# Altium schematic symbol library Schlib.SchLib: 32 symbols
Pins are listed as number, name and electrical type; pins without a type are passive.

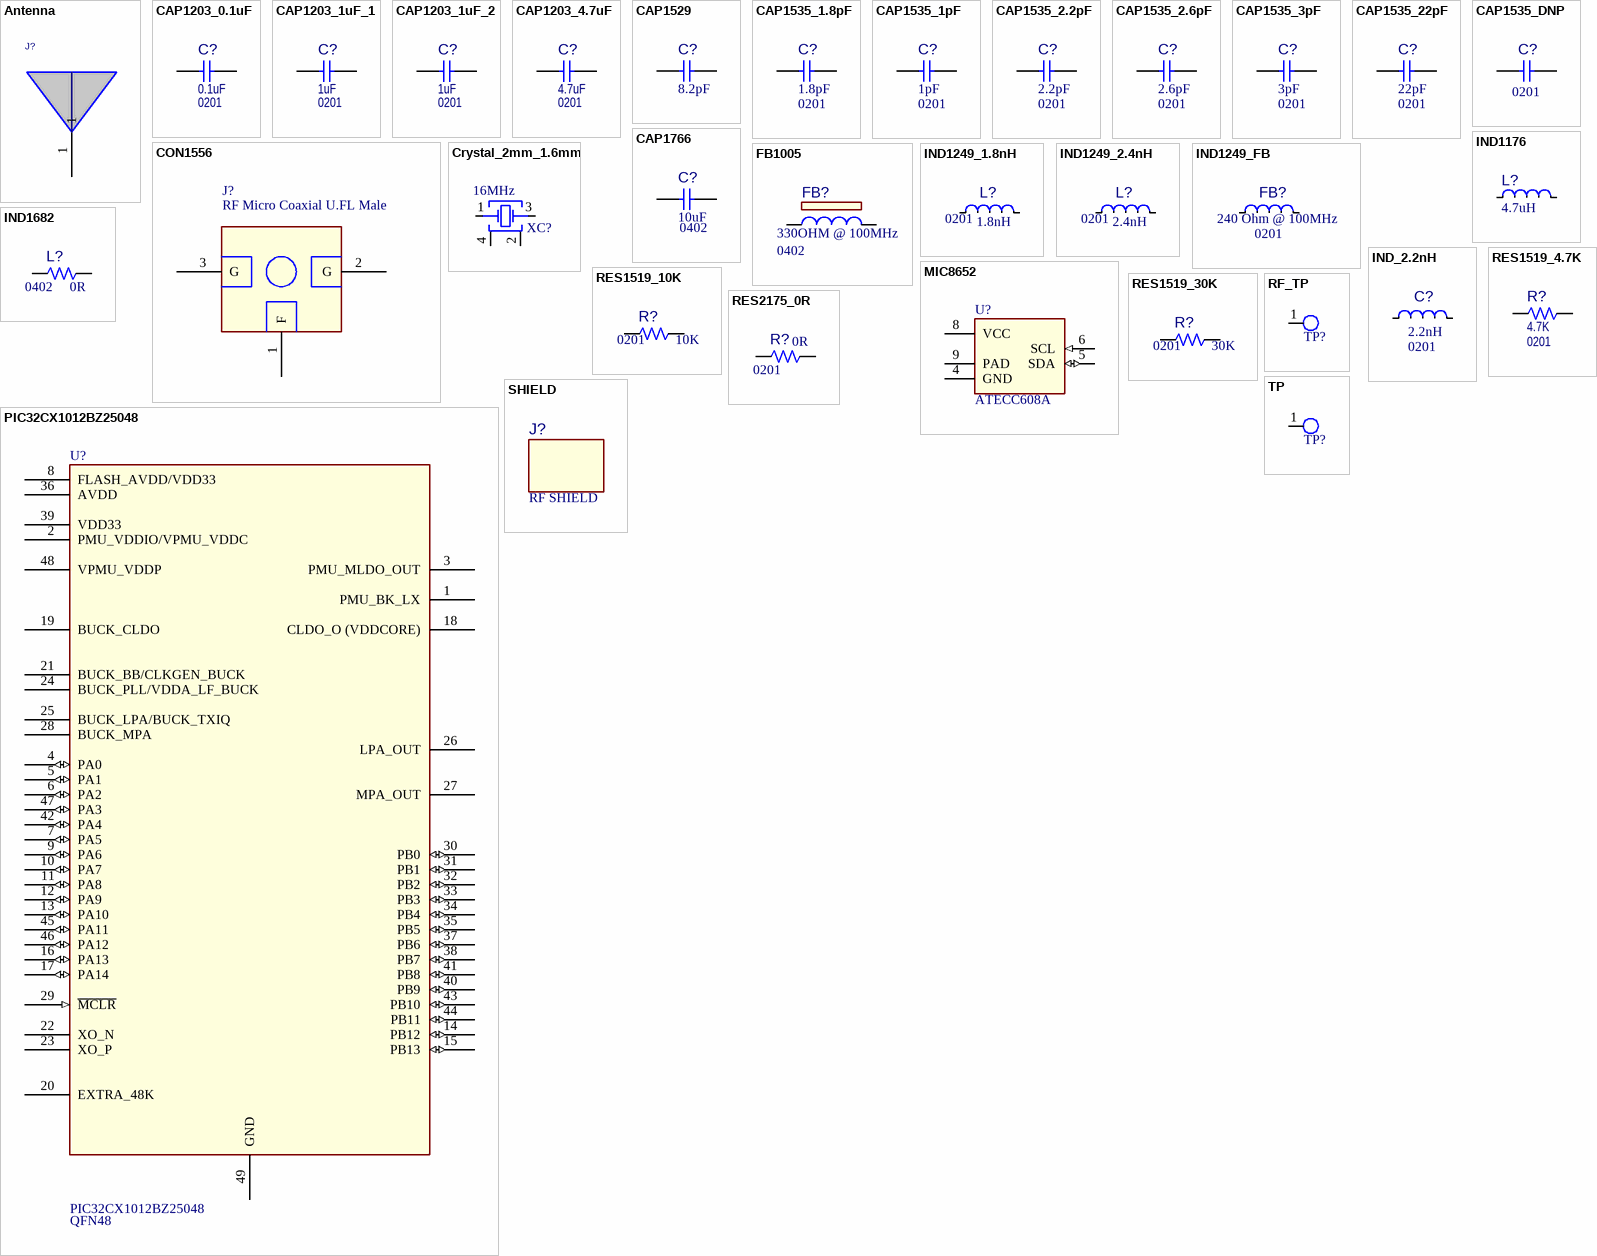
[diagram p0: symbols Antenna to TP]

## Antenna
designator J?  (no BOM)
PCB Antenna; HEIGHT: 0MM; Category: Connector; ROHS: YES
footprint MONOPOLE_2LAYERS - duplicate
pins: 1

## CAP1203_0.1uF
designator C?  value 0.1uF  Package: 0201
CAP CER 0.1UF 16V X5R 0201; Manufacturer: Murata; Alternate Part Number: GRM033R61A104ME15D; Manufacturer Part Number: GRM033R61C104KE84D; Alternate Part Description: CAP CER 0.1UF 10V X5R 0201; Note: *; ComponentLink5Description: Open Footprint 2; ComponentLink6Description: Open Footprint 3; ComponentLink7Description: Open Footprint 4; Alternate Manufacturer: Murata
footprint CAP_C_0201
pins: 1, 2

## CAP1203_1uF_1
designator C?  value 1uF  Package: 0201
CAP CER 1UF 10V X5R 0201; Manufacturer: Murata; Alternate Part Number: GRM033R60J105MEA2D; Manufacturer Part Number: GRM033R61A105ME15; Alternate Part Description: CAP CER 1UF 6.3V X5R 0201; Note: *; ComponentLink5Description: Open Footprint 2; ComponentLink6Description: Open Footprint 3; ComponentLink7Description: Open Footprint 4; Alternate Manufacturer: Murata
footprint CAP_C_0201
pins: 1, 2

## CAP1203_1uF_2
designator C?  value 1uF  Package: 0201
CAP CER 1UF 10V X5R 0201; Manufacturer: Murata; Alternate Manufacturer: Samsung; Alternate Part Number: CL03A105MQ3CSNH; Manufacturer Part Number: GRM033R61A105ME15; Alternate Part Description: CAP CER 1UF 6.3V X5R 0201; Note: *; ComponentLink5Description: Open Footprint 2; ComponentLink6Description: Open Footprint 3; ComponentLink7Description: Open Footprint 4
footprint CAP_C_0201
pins: 1, 2

## CAP1203_4.7uF
designator C?  value 4.7uF  Package: 0201
CAP CER 4.7UF 6.3V X5R 0201; Manufacturer: Murata; Alternate Manufacturer: KYOCERA AVX; Alternate Part Number: CM03X5R475M06AH055; Manufacturer Part Number: GRM035R60J475ME15J; Note: *; ComponentLink5Description: Open Footprint 2; ComponentLink6Description: Open Footprint 3; ComponentLink7Description: Open Footprint 4; Alternate Part Description: CAP CER 4.7UF 6.3V X5R 0201
footprint CAP_C_0201
pins: 1, 2

## CAP1529
designator C?  value 8.2pF
CAP CER 8.2PF 25V C0G/NP0 0201; Manufacturer: Murata; Manufacturer Part Number: GRM0335C1E8R2BA01D; Alternate Manufacturer: Yageo; Alternate Part Number: CC0201DRNPO8BN8R2‎; Alternate Part Description: CAP CER 8.2PF 25V C0G/NPO 0201; Note: *; ComponentLink5Description: Open Footprint 2; ComponentLink6Description: Open Footprint 3; ComponentLink7Description: Open Footprint 4
footprint CAP_C_0201
pins: 1, 2

## CAP1535_1.8pF
designator C?  value 1.8pF  Package: 0201
CAP CER 1.8PF 50V C0G/NP0 0201; Manufacturer: Murata; Alternate Manufacturer: Johanson; Alternate Part Number: 250R05L1R8BV4T; Alternate Part Description: CAP CER 1.8PF 25V C0G/NP0 0201; Manufacturer Part Number: GJM0335C1H1R8BB01; Note: *; ComponentLink5Description: Open Footprint 2; ComponentLink6Description: Open Footprint 3; ComponentLink7Description: Open Footprint 4
footprint CAP_C_0201
pins: 1, 2

## CAP1535_1pF
designator C?  value 1pF  Package: 0201
CAP CER 1PF 25V C0G/NP0 0201; Manufacturer: Murata; Alternate Manufacturer: Johanson; Alternate Part Number: 250R05L1R0BV4T; Manufacturer Part Number: GJM0335C1E1R0BB01D; Note: *; ComponentLink5Description: Open Footprint 2; ComponentLink6Description: Open Footprint 3; ComponentLink7Description: Open Footprint 4; Alternate Part Description: CAP CER 1PF 25V C0G/NP0 0201
footprint CAP_C_0201
pins: 1, 2

## CAP1535_2.2pF
designator C?  value 2.2pF  Package: 0201
CAP CER 2.2PF 50V C0G/NP0 0201; Manufacturer: Murata; Alternate Manufacturer: Johanson; Alternate Part Number: 250R05L2R2BV4T; Alternate Part Description: CAP CER 2.2PF 25V C0G/NP0 0201; Manufacturer Part Number: GJM0335C1H2R2BB01; Note: *; ComponentLink5Description: Open Footprint 2; ComponentLink6Description: Open Footprint 3; ComponentLink7Description: Open Footprint 4
footprint CAP_C_0201
pins: 1, 2

## CAP1535_2.6pF
designator C?  value 2.6pF  Package: 0201
CAP CER 2.6PF 50V C0G/NP0 0201; Manufacturer: Murata; Alternate Manufacturer: Samsung; Alternate Part Number: CL03C2R6BA3GNNC; Alternate Part Description: CAP CER 2.6PF 25V C0G/NP0 0201; Manufacturer Part Number: GRM0335C1H2R6BA01D; Note: *; ComponentLink5Description: Open Footprint 2; ComponentLink6Description: Open Footprint 3; ComponentLink7Description: Open Footprint 4
footprint CAP_C_0201
pins: 1, 2

## CAP1535_3pF
designator C?  value 3pF  Package: 0201
CAP CER 3PF 25V C0G/NP0 0201; Manufacturer: Murata; Alternate Manufacturer: Johanson; Alternate Part Number: 250R05L3R0BV4T; Manufacturer Part Number: GJM0335C1E3R0BB01D; Note: *; ComponentLink5Description: Open Footprint 2; ComponentLink6Description: Open Footprint 3; ComponentLink7Description: Open Footprint 4; Alternate Part Description: CAP CER 3PF 25V C0G/NP0 0201
footprint CAP_C_0201
pins: 1, 2

## CAP1535_22pF
designator C?  value 22pF  Package: 0201
CAP CER 22PF 50V C0G/NP0 0201; Manufacturer: Murata; Alternate Manufacturer: Johanson; Alternate Part Number: 250R05L220JV4T; Alternate Part Description: CAP CER 22PF 25V C0G/NP0 0201; Manufacturer Part Number: GRM0335C1H220JA01D; ComponentLink5Description: Open Footprint 2; ComponentLink6Description: Open Footprint 3; ComponentLink7Description: Open Footprint 4
footprint CAP_C_0201
pins: 1, 2

## CAP1535_DNP
designator C?  Package: 0201
CAP CER 0201; Note: *; ComponentLink5Description: Open Footprint 2; ComponentLink6Description: Open Footprint 3; ComponentLink7Description: Open Footprint 4
footprint CAP_C_0201
pins: 1, 2

## CAP1766
designator C?  value 10uF  Package: 0402
CAP CER 10UF 6.3V X5R 0402; Manufacturer: Murata; Manufacturer Part Number: GRM155R61A106ME11#; Alternate Manufacturer: Yageo; Alternate Part Number: CC0402MRX5R6BB106; Alternate Part Description: CAP CER 10UF 10V X5R 0402; Note: *; ComponentLink5Description: Open Footprint 2; ComponentLink6Description: Open Footprint 3; ComponentLink7Description: Open Footprint 4
footprint CAP_C_0402 (Chip Capacitor, 2-Leads, Body 1.0x0.5mm, IPC High Density)
pins: 1, 2

## CON1556
designator J?  value RF Micro Coaxial U.FL Male
CONN U.FL RCPT STR 50 OHM SMD; Manufacturer: Hirose; Manufacturer Part Number: U.FL-R-SMT; Alternate Part: I-PEX; Alternate Part Number: 20279-001E-03; ComponentLink5Description: Open Footprint 2; ComponentLink6Description: Open Footprint 3; ComponentLink7Description: Open Footprint 4; Alternate part description: CONN U.FL RCPT STR 50 OHM SMD
footprint CONN_MICRO-COAXIAL RECEPTACLE V-SMD3-H1.25
pins: 1 F, 2 G, 3 G
1 alternate drawing of the same symbol

## Crystal_2mm_1.6mm
designator XC?  value 16MHz
CRYSTAL 16.0000MHZ 8PF SMD; Manufacturer: Tai-Saw Technology Co., LTD; Alternate Manufacturer: Jauch Quartz; Alternate Part Number: Q 16,0-JXS21-8-10/15-T1-WA-LF; Manufacturer Part Number: TZ2761D; Alternate Part Description: CRYSTAL 16.0000MHZ 8PF SMD
footprint AP7-00104 (CRYSTAL 32MHz 10pF SMD L2.0W1.6H0.5)
pins: 1, 2, 3, 4

## FB1005
designator FB?  value 330OHM @ 100MHz  Package: 0402
FERRITE BEAD 330 OHM 1.2A 0402 1LN; Manufacturer: Murata; Manufacturer Part Number: BLM15PX331SN1D; Alternate Manufacturer: TDK; Alternate Part Number: MPZ1005S331ET000; Alternate Part Description: FERRITE BEAD 330 OHM 0402 1LN; Note: *; ComponentLink5Description: Open Footprint 2; ComponentLink6Description: Open Footprint 3; ComponentLink7Description: Open Footprint 4
footprint IND_C_0402
pins: 1, 2
2 alternate drawings of the same symbol

## IND1176
designator L?  value 4.7uH
FIXED IND 4.7UH 1.2A 275MOHM SMD 0805; Manufacturer: Murata; Manufacturer Part Number: LQM21PN4R7MGH; Alternate Manufacturer: Taiyo Yuden; Alternate Part Number: CB2012T4R7M; Alternate Part Description: FIXED IND 4.7UH 580MA 520MOHM SM; Note: *; ComponentLink5Description: Open Footprint 2; ComponentLink6Description: Open Footprint 3; ComponentLink7Description: Open Footprint 4; Package: 0805
footprint IND_C_0805
pins: 1 S, 2 F
2 alternate drawings of the same symbol

## IND1249_1.8nH
designator L?  value 1.8nH  Package: 0201
FIXED IND 1.8NH 800MA 80MOHM SMD; Manufacturer: Murata; Alternate Manufacturer: TDK; Alternate Part Number: MHQ0603P1N8BT000; Alternate Part Description: FIXED IND 1.8NH 700MA 120MOHM SM; Manufacturer Part Number: LQP03HQ1N8B02#; DCR: 0.12R; ComponentLink5Description: Open Footprint 2; ComponentLink6Description: Open Footprint 3; ComponentLink7Description: Open Footprint 4
footprint IND_C_0201
pins: 1 S, 2 F
2 alternate drawings of the same symbol

## IND1249_2.4nH
designator L?  value 2.4nH  Package: 0201
FIXED IND 2.4NH 600MA 120MOHM SM; Manufacturer: Murata; Alternate Manufacturer: TDK; Alternate Part Number: MHQ0603P2N4BT000; Alternate Part Description: FIXED IND 2.4NH 700MA 150MOHM SM 0201; Manufacturer Part Number: LQP03HQ2N4B02#; ComponentLink5Description: Open Footprint 2; ComponentLink6Description: Open Footprint 3; ComponentLink7Description: Open Footprint 4
footprint IND_C_0201
pins: 1 S, 2 F
2 alternate drawings of the same symbol

## IND1249_FB
designator FB?  value 240 Ohm @ 100MHz  Package: 0201
FERRITE BEAD 240 OHM 0201 1LN; Manufacturer Part Number: BLM03AX241SN1#; Manufacturer: Murata; Alternate Manufacturer: TDK; Alternate Part Number: MMZ0603S241CT000; Note: *; ComponentLink5Description: Open Footprint 2; ComponentLink6Description: Open Footprint 3; ComponentLink7Description: Open Footprint 4; Alternate Part Description: FERRITE BEAD 240 OHM 0201 1LN
footprint IND_C_0201 (Chip Inductor, 2-Leads, Body 0.6x0.3mm, IPC Medium Density)
pins: 1 S, 2 F
2 alternate drawings of the same symbol

## IND1682
designator L?  value 0R  Package: 0402
RES 0 OHM JUMPER 1/16W 0402; Manufacturer: Yageo; Manufacturer Part Number: RC0402JR-070RL; Alternate Manufacturer: TE Connectivity; Alternate Part Number: CRG0402ZR; Alternate Part Description: RES SMD 0 OHM JUMPER 1/16W 0402; ComponentLink5Description: Open Footprint 2; ComponentLink6Description: Open Footprint 3; ComponentLink7Description: Open Footprint 4
footprint IND_C_0402
pins: 1, 2

## IND_2.2nH
designator C?  value 2.2nH  Package: 0201
FIXED IND 2.2NH 600MA 120MOHM SM; Manufacturer: Murata; Alternate Manufacturer: TDK; Alternate Part Number: ‎MHQ0603P2N2BT000‎; Alternate Part Description: FIXED IND 2.2NH 700MA 150MOHM SM; Manufacturer Part Number: LQP03HQ2N2B02; Note: *; ComponentLink5Description: Open Footprint 2; ComponentLink6Description: Open Footprint 3; ComponentLink7Description: Open Footprint 4
footprint CAP_C_0201
pins: 1, 2

## MIC8652
designator U?  value ATECC608A
IC AUTHENTICATION CHIP 8UDFN; Manufacturer: Microchip Technology; Manufacturer Part Number: ATECC608A-MAHDA-S; ComponentLink1Description: SVN Datasheet; ComponentLink2Description: Local Datasheet; ComponentLink5Description: Open Footprint 2; ComponentLink6Description: Open Footprint 3; ComponentLink7Description: Open Footprint 4
footprint UDFN-8_2X3_EP1.5X1.3 (PQFN, 8-Leads, Body 3.00x2.00mm, Pitch 0.50mm, Thermal Pad 1.30x1.50mm, IPC Medium Density)
pins: 4 GND (power), 5 SDA (io), 6 SCL (in), 8 VCC (power), 9 PAD

## PIC32CX1012BZ25048
designator U?  value PIC32CX1012BZ25048  Package: QFN48
IC SIP 1M MCU BT5 ZigBee Radio QFN48; Manufacturer: Microchip Technology; Manufacturer Part Number: PIC32CX1012BZ25048
footprint QFN-48_7X7 (VQFN48_7x7mm_4.5x4.5mm_Paddle)
pins: 1 PMU_BK_LX (power), 2 PMU_VDDIO/VPMU_VDDC (power), 3 PMU_MLDO_OUT (power), 4 PA0 (io), 5 PA1 (io), 6 PA2 (io), 7 PA5 (io), 8 FLASH_AVDD/VDD33 (power), 9 PA6 (io), 10 PA7 (io), 11 PA8 (io), 12 PA9 (io), 13 PA10 (io), 14 PB12 (io), 15 PB13 (io), 16 PA13 (io), 17 PA14 (io), 18 CLDO_O (VDDCORE) (power), 19 BUCK_CLDO (power), 20 EXTRA_48K, 21 BUCK_BB/CLKGEN_BUCK (power), 22 XO_N, 23 XO_P, 24 BUCK_PLL/VDDA_LF_BUCK (power), 25 BUCK_LPA/BUCK_TXIQ (power), 26 LPA_OUT (power), 27 MPA_OUT (power), 28 BUCK_MPA (power), 29 ~{MCLR} (in), 30 PB0 (io), 31 PB1 (io), 32 PB2 (io), 33 PB3 (io), 34 PB4 (io), 35 PB5 (io), 36 AVDD (power), 37 PB6 (io), 38 PB7 (io), 39 VDD33 (power), 40 PB9 (io), 41 PB8 (io), 42 PA4 (io), 43 PB10 (io), 44 PB11 (io), 45 PA11 (io), 46 PA12 (io), 47 PA3 (io), 48 VPMU_VDDP (power), 49 GND (power)

## RES1519_4.7K
designator R?  value 4.7K  Package: 0201
RES SMD 4.7K OHM 1% 1/20W 0201; Manufacturer: Panasonic; Manufacturer Part Number: ERJ-1GEF4701C; ComponentLink5Description: Open Footprint 2; ComponentLink6Description: Open Footprint 3; ComponentLink7Description: Open Footprint 4
footprint RES_C_0201
pins: 1, 2

## RES1519_10K
designator R?  value 10K  Package: 0201
RES SMD 10K OHM 1% 1/20W 0201; Manufacturer: Panasonic; Manufacturer Part Number: ERJ-1GEF1002C; ComponentLink5Description: Open Footprint 2; ComponentLink6Description: Open Footprint 3; ComponentLink7Description: Open Footprint 4; Alternate Part Description: *
footprint RES_C_0201
pins: 1, 2

## RES1519_30K
designator R?  value 30K  Package: 0201
RES SMD 30K OHM 1% 1/20W 0201; Manufacturer: Panasonic; Manufacturer Part Number: ERJ-1GNF3002C; Alternate Manufacturer: Yageo; Alternate Part Number: RC0201FR-0730KL; Alternate Part Description: RES 30K OHM 1% 1/20W 0201; ComponentLink5Description: Open Footprint 2; ComponentLink6Description: Open Footprint 3; ComponentLink7Description: Open Footprint 4
footprint RES_C_0201
pins: 1, 2

## RES2175_0R
designator R?  value 0R  Package: 0201
RES SMD 0 OHM JUMPER 1/20W 0201; Manufacturer: Panasonic; Manufacturer Part Number: ERJ-1GN0R00C; ComponentLink5Description: Open Footprint 2; ComponentLink6Description: Open Footprint 3; ComponentLink7Description: Open Footprint 4
footprint RES_C_0201
pins: 1, 2

## RF_TP
designator TP?  (no BOM)
RF TP
footprint RF-TP\P_D1.2\S_W1.0_R1.7_2/3
pins: 1 TP

## SHIELD
designator J?  value RF SHIELD
RF SHIELD; Manufacturer: BI-LINK; Manufacturer Part Number: DWG-B32-022; Alternate Manufacturer: *; Alternate Part Number: *; Package: *
footprint RF_SHIELD

## TP
designator TP?  (no BOM)
TEST POINT
footprint TP\0P8
pins: 1 TP